# Altium footprint library 0603-inductor.PcbLib: 1 footprints
Each footprint in its own frame and in the unit in brackets; x right, y up, seen from the top. Pads: shape width x height; smd on the part's side, far side on the other; paste and mask are expansions set on the pad; w line width, h text height; cw(c..) or ccw(c..) is an arc to the next point about the centre after c.
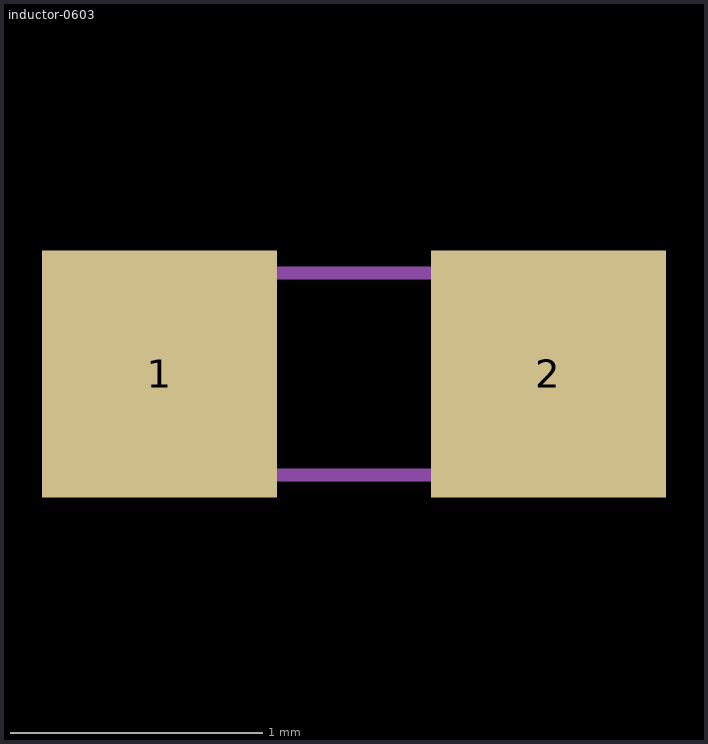
[diagram p0: the footprint, top view; thin cyan lines are the x and y axes]

## inductor-0603 [mm]
pads (2):
  rect 0.93x0.98 smd: 1(-110.644,129.455) 2(-109.104,129.455)
Mechanical 13:
  lines w0.05: -110.674,129.055 -110.674,129.855 -109.074,129.855 -109.074,129.055 -110.674,129.055